# EAGLE library part MODULARJACK_4C4P (library Traficon)
Modular jack 4c/4p Farnell: 973-4171 Molex: 85502-0005 (in the future 85502-5005)
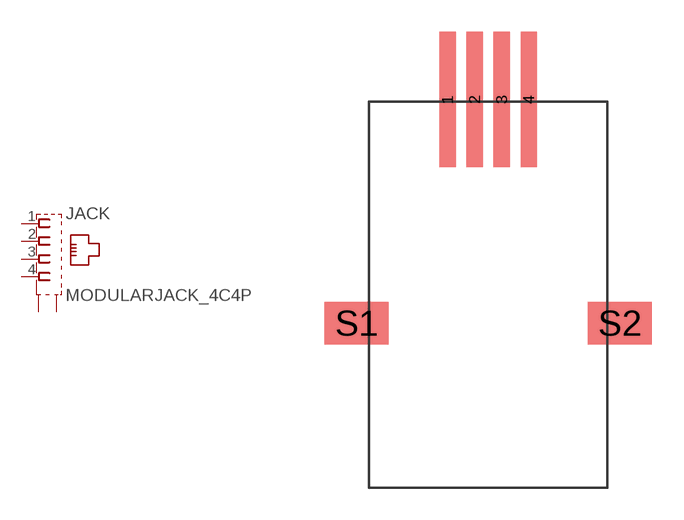
[diagram p114: symbol with the pads of MOLEX-85502-0005; footprint MOLEX-85502-0005]

Designator prefix JACK

## MODULARJACK_4C4P  [MOLEX-85502-0005]
1  1  pas
2  2  pas
3  3  pas
4  4  pas
S1  S1  pas
S2  S2  pas

## Footprint MOLEX-85502-0005 (pad centres in mm)
smd 0.762 x 6.35: 1 -1.905,8.255; 2 -0.635,8.255; 3 0.635,8.255; 4 1.905,8.255
smd 3 x 2: S1 -6.172,-2.235; S2 6.172,-2.235